# Altium schematic symbol library ne555.SCHLIB: 14 symbols
Pins are listed as number, name and electrical type; pins without a type are passive.

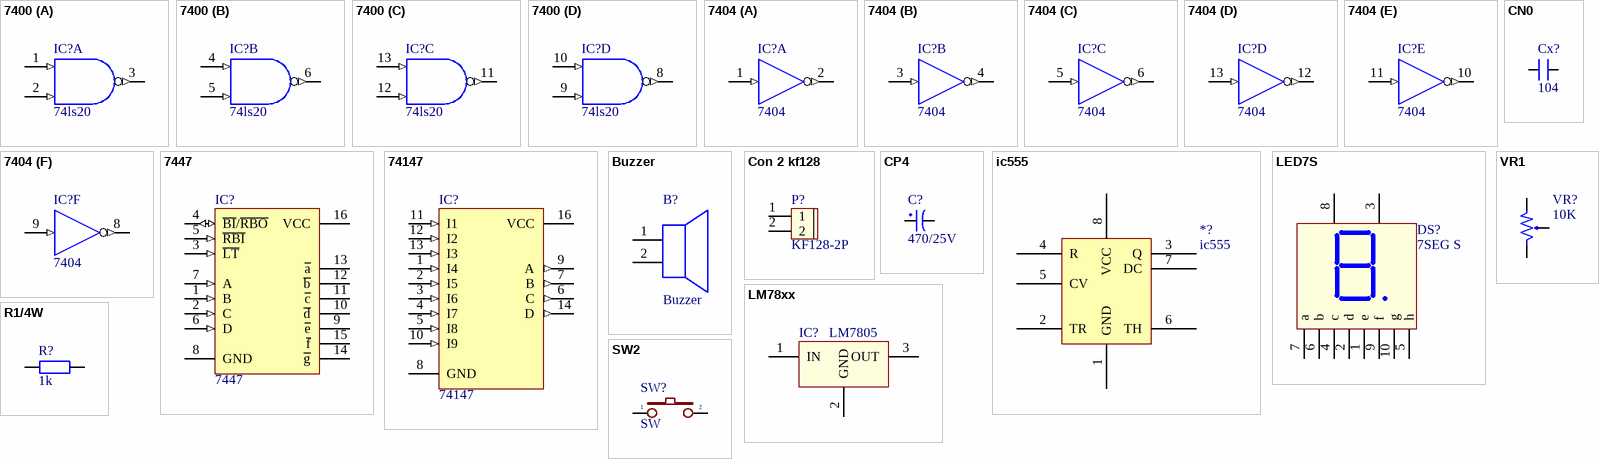
[diagram p0: symbols 7400 to VR1]

## 7400
designator IC?, comment 74ls20
Quad 2-Input NAND Gate; Value: 7400; Value: DIP14/W0.3; Copyright by: VanDungEvn@Gmail.com
footprint DIP14/W0.3 (14PIN, W 300mil, Pin to pin 100mil)
pins on every part: 7 GND (power) hidden to GND, 14 VCC (power) hidden to VCC
part A pins: 1 A (in), 2 B (in), 3 ~{O} (out)
part B pins: 4 A (in), 5 B (in), 6 ~{O} (out)
part C pins: 11 ~{O} (out), 12 B (in), 13 A (in)
part D pins: 8 ~{O} (out), 9 B (in), 10 A (in)

## 7404
designator IC?
Hex Inverter; Code_IPC: SOIC127P600-14; ComponentLink1Description: Manufacturer Link; ComponentLink1URL: http://www.national.com/; ComponentLink2Description: Datasheet; ComponentLink2URL: http://www.fairchildsemi.com/ds/74/74F04.pdf; Value: 7404
footprint DIP14/W0.3 (14PIN, W 300mil, Pin to pin 100mil)
pins on every part: 7 GND (power) hidden to GND, 14 VCC (power) hidden to VCC
part A pins: 1 A (in), 2 ~{O} (out)
part B pins: 3 A (in), 4 ~{O} (out)
part C pins: 5 A (in), 6 ~{O} (out)
part D pins: 12 ~{O} (out), 13 A (in)
part E pins: 10 ~{O} (out), 11 A (in)
part F pins: 8 ~{O} (out), 9 A (in)

## 7447
designator IC?
BCD to 7-Segment Decoder/Driver; Value: 7447 , 74247
footprint DIP16/W0.3 (16 PIN, W 300mil, Pin to pin 100mil)
pins: 1 B (in), 2 C (in), 3 ~{LT} (in), 4 ~{BI}/~{RBO} (io), 5 ~{RBI} (in), 6 D (in), 7 A (in), 8 GND (power), 9 ~{e} (oc), 10 ~{d} (oc), 11 ~{c} (oc), 12 ~{b} (oc), 13 ~{a} (oc), 14 ~{g} (oc), 15 ~{f} (oc), 16 VCC (power)

## 74147
designator IC?
10-Line to 4-Line Priority Encoder; Copyright by: VanDungEvn@Gmail.com
footprint DIP16/W0.3 (16 PIN, W 300mil, Pin to pin 100mil)
pins: 1 I4 (in), 2 I5 (in), 3 I6 (in), 4 I7 (in), 5 I8 (in), 6 C (out), 7 B (out), 8 GND (power), 9 A (out), 10 I9 (in), 11 I1 (in), 12 I2 (in), 13 I3 (in), 14 D (out), 16 VCC (power)

## Buzzer
designator B?
footprint Buzzer (2PIN, 3.5mm pitch, 0.8mm pin width)
footprint BUZZER_SMD_9633 (Capacitor, SM Tantalum; Body 7.3 x 4.3 mm (LxW typ))
footprint BUZZER_SMD_0835A (Buzzer SMD)
footprint BUZZER_SMD_KLJ_8540 (SMD Buzzer, 5V, Size: 8.5x8.5MM, 2700 Hz)
pins: 1 +, 2 -

## CN0
designator Cx?, comment 104
Cremic For Xtal 1pF => 100pF; Value: 33pF
footprint CN1
pins: 1, 2

## Con 2 kf128
designator P?, comment KF128-2P
Cắm; So_Chan: 2; Ten_Linh_Kien: CON 2 KF128-2P 5.08MM; Ma_Hang: MH000982; Don_Vi: Con; Chung_Loai: Cắm; Kieu_Chan: *
footprint con 2 kf128
pins: 1, 2

## CP4
designator C?, comment 470/25V
Cap 1000uF/16V - 220uF/50V; Description 5: 4,7uF>10uF/250V_3,3uF>10uF/400V - 2,2uF>4,7uF/450V; Description 1: 2200uF-3300uF/6,3V - 1000uF-2200uF/10V; Description 2: 1000uF/16V - 470uF => 1000uF/25V - 100uF/100V; Description 3: 330uF>470uF/35V_220uF>470uF/50V_10uF>22uF/250V; Description 4: 220uF => 330uF/63V - 10uF =>33uF/160 - 200V; Value: 1000uF/16V
footprint CP1.5/3.4 (Tu hoa 220->470uF,16V, 470uF/16V,25V)
pins: 1, 2

## ic555
designator *?
footprint DIP8/W0.3 (8 PIN, W 300mil, Pin to pin 100mil)
pins: 1 GND, 2 TR, 3 Q, 4 R, 5 CV, 6 TH, 7 DC, 8 VCC

## LED7S
designator DS?, comment 7SEG S
Single 7 Seg Dipslay; Value: LED 7S SEG
footprint 7SEGS (DIP 10 Leads; Body 12 x 15 mm; Pitch 0.5 mm)
pins: 1 e, 2 d, 3 Vcc, 4 c, 5 h, 6 b, 7 a, 8 Vcc, 9 f, 10 g

## LM78xx
designator IC?, comment LM7805
On ap +, from + 5 to + 24VDC; Value: LM7805
footprint QTO-220 (TO-220 - 1-2-3)
footprint QTO-220H3 (TO-220 1-2-3)
footprint QTO-220NH (TO-220 - 1-2-3)
footprint DPAK_SOT252_TO252 (78MXX)
pins: 1 IN, 2 GND, 3 OUT

## R1/4W
designator R?, comment 1k
Resistor 1/4W; Value: R1/4W - 1K
footprint R1/4W (R 1/4W, 2 Pin, 350mil)
footprint R1/8W (R 1/8W, 2 pin, 300mil)
footprint R1/2W (R 1/2W, 2 pin, 400mil)
footprint R1/4WD (R 1/4W, 2 Pin, 150mil)
pins: 1, 2

## SW2
designator SW?, comment SW
Switch button 2 pin; Value: SW chip 2 pin
footprint SW2 (SW button 2pin, 250x 250 mil)
pins: 1, 2

## VR1
designator VR?, comment 10K
Var Resistor; Value: VR 10K
footprint VR1 (Variable Resistor)
footprint VR (Resistor Variable)
pins: 1, 2, 3